# Altium footprint library Terminal Block.PcbLib: 24 footprints (part 1 of 2)
Each footprint in its own frame and in the unit in brackets; x right, y up, seen from the top. Pads: shape width x height; smd on the part's side, far side on the other; paste and mask are expansions set on the pad; w line width, h text height; cw(c..) or ccw(c..) is an arc to the next point about the centre after c.
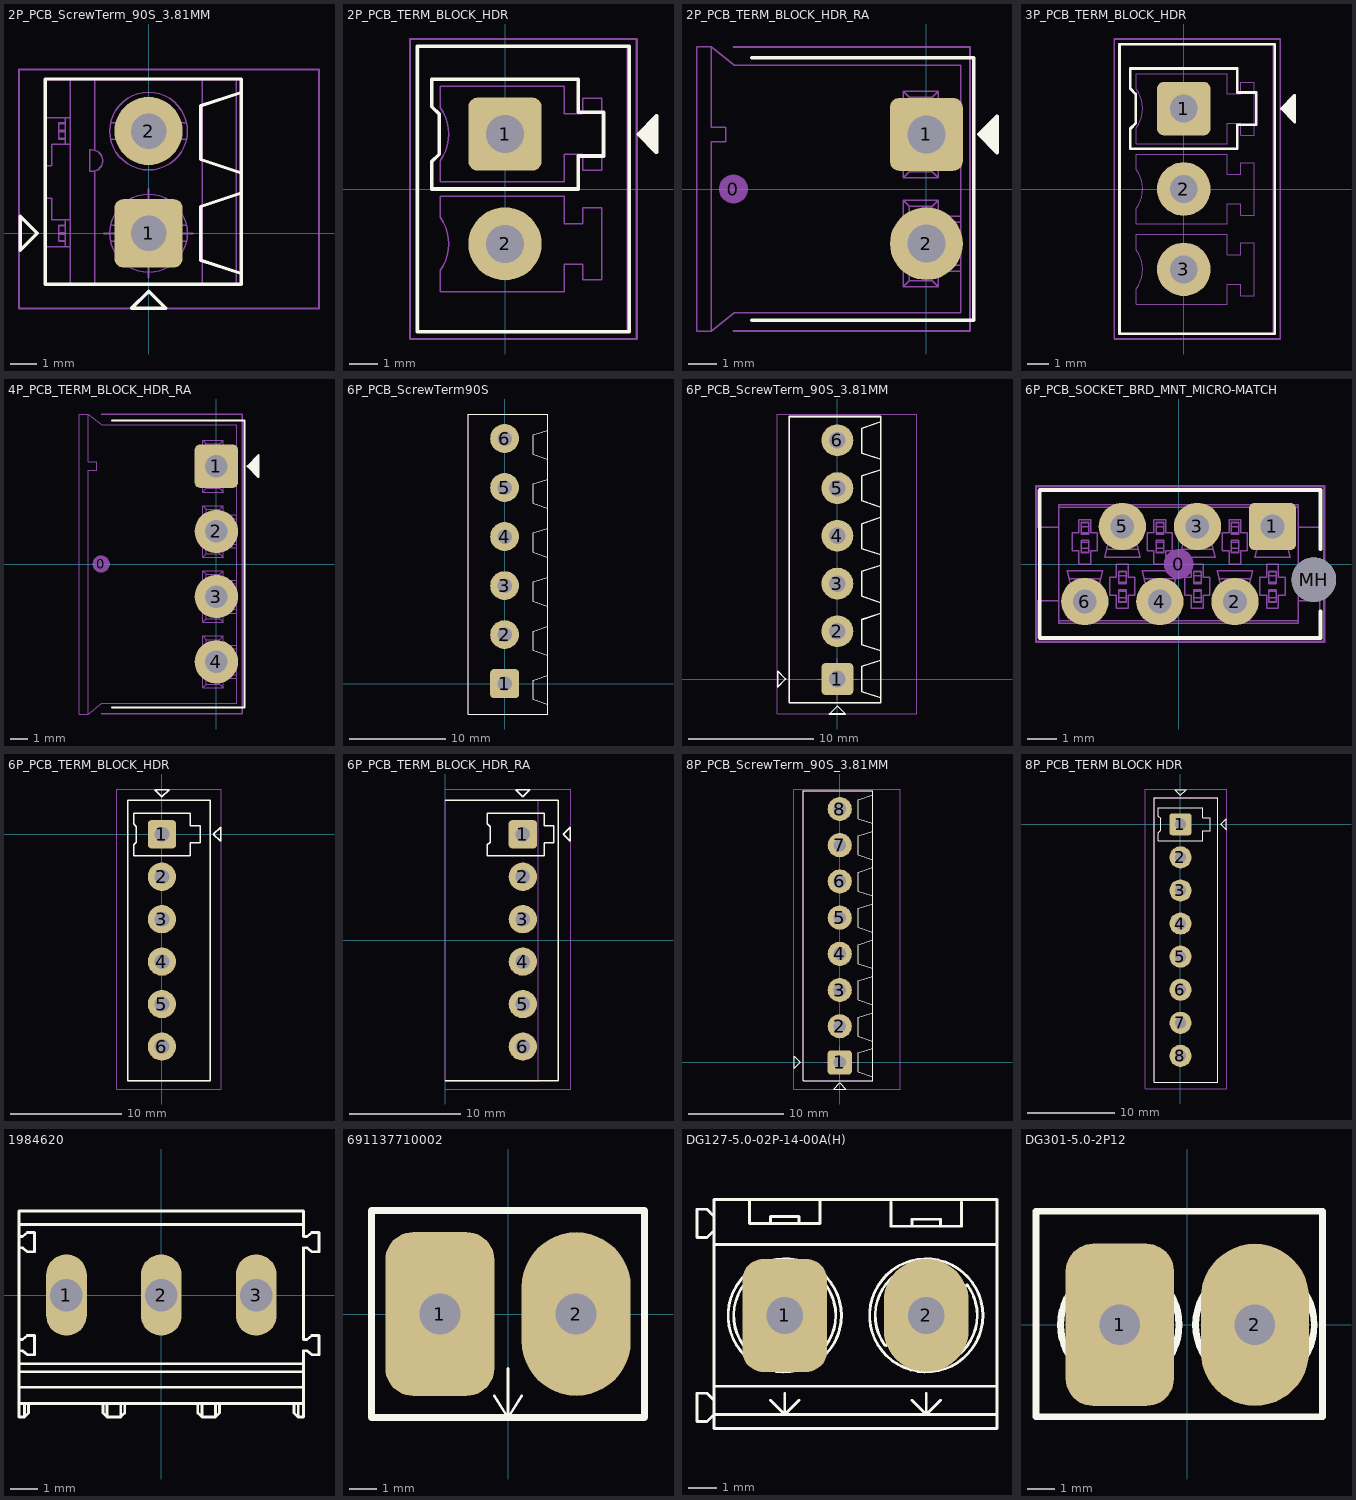
[diagram p0: the footprints below, top view; thin cyan lines are the x and y axes]

## 2P_PCB_ScrewTerm_90S_3.81MM [mil] "TERM BLOCK 2POS SIDE ENT STACKABLE 3.81MM"
height 334.65
pads (2):
  rrect25% 100x100 hole 52: 1(0,0)
  round 100 hole 52: 2(0,150)
Top Overlay:
  lines w5: 135.83,-59.06 76.78,-39.37 76.78,39.37 135.83,59.06 ; 135.83,88.58 76.78,108.27 76.78,187.01 135.83,206.69 ; -188,-25 -163,0 -188,25 -188,-25 ; -151.57,-75 -151.57,226.38 135.83,226.38 135.83,-75 -151.57,-75 ; -25,-110 25,-110 0,-85 -25,-110
Mechanical 13:
  circle w1.97: c0,0 r57.09
  circle w1.97: c0,150 r57.09
  lines w1.97: -151.57,-19.69 -114.76,-19.69 -114.76,19.68 -141.73,19.68 -141.73,51.18 -151.57,51.18 ; -151.57,98.82 -141.73,98.82 -141.73,130.31 -114.76,130.31 -114.76,169.69 -151.57,169.69 ; -131.89,-10.91 -122.05,-10.91 ; -131.89,-1.06 -122.05,-1.06 ; -131.89,1.06 -122.05,1.06 ; -131.89,10.91 -122.05,10.91 ; -131.89,139.09 -122.05,139.09 ; -131.89,148.94 -122.05,148.94 ; -131.89,151.06 -122.05,151.06 ; -131.89,160.91 -122.05,160.91 ; -122.05,-19.69 -122.05,19.68 ; -122.05,-11.81 -131.89,-11.81 -131.89,11.81 -122.05,11.81 ; -122.05,130.31 -122.05,169.69 ; -122.05,138.19 -131.89,138.19 -131.89,161.81 -122.05,161.81 ; -114.56,-75 -114.56,225 ; -78.74,-75 -78.74,91.34 ; -78.74,121.65 -78.74,225 ; -55.85,-11.81 55.85,-11.81 ; -55.85,11.81 55.85,11.81 ; -55.85,138.19 55.85,138.19 ; -55.85,161.81 55.85,161.81 ; 78.74,-75 78.74,225 ; 128.89,-75 128.89,225 ; -151.57,-75 -151.57,225 135.83,225 135.83,-75 -151.57,-75 ; -85.91,90.75 -83.03,90.75 ccw(c-83.03,106.5) -83.03,122.24 -85.91,122.24 -85.91,90.75
Mechanical 15:
  lines w3: -65,0 65,0 ; 0,-65 0,65 ; -190,-110 -190,240 250,240 250,-110 -190,-110
3D body "c-1776113-2-o-3d.stp": height 334.65, standoff -137.8, extent -151.57,-75.19 135.83,224.81

## 2P_PCB_TERM_BLOCK_HDR [mil] "TERM BLOCK HDR 2POS 3.81MM"
height 362.2
pads (2):
  rrect25% 100x100 hole 52: 1(0,75)
  round 100 hole 52: 2(0,-75)
Top Overlay:
  region: 182,75 207,100 207,50
  lines w5: -120,-195.08 -120,195.08 ; -120,-195 170,-195 ; -120,195 170,195 ; 170,-195.08 170,195.08 ; -100,0 100,0 100,45 135,45 135,105 100,105 100,150 -100,150 -100,112.5 -90,102.5 -90,47.5 -100,37.5 -100,0 ; 182,75 207,100 207,50 182,75
Mechanical 13:
  circle w1.97: c0,-75 r43.31
  circle w1.97: c0,75 r43.31
  circle w1.97: c0,75 r35.43
  circle w1.97: c0,-75 r35.43
  lines w1.97: -118.11,-195.08 -118.11,195.08 167.32,195.08 167.32,-195.08 -118.11,-195.08 ; -88.58,-140.16 -88.58,-111.08 ccw(c-137.8,-75) -88.58,-38.92 -88.58,-9.84 80.71,-9.84 80.71,-47.44 106.3,-47.44 106.3,-25.79 131.89,-25.79 131.89,-124.21 106.3,-124.21 106.3,-102.56 80.71,-102.56 80.71,-140.16 -88.58,-140.16 ; -88.58,9.84 -88.58,38.92 ccw(c-137.8,75) -88.58,111.08 -88.58,140.16 80.71,140.16 80.71,102.56 106.3,102.56 106.3,124.21 131.89,124.21 131.89,25.79 106.3,25.79 106.3,47.44 80.71,47.44 80.71,9.84 -88.58,9.84 ; -15.75,-90.75 15.75,-90.75 15.75,-59.25 -15.75,-59.25 -15.75,-90.75 ; -15.75,59.25 15.75,59.25 15.75,90.75 -15.75,90.75 -15.75,59.25
Mechanical 15:
  lines w3: -130,-205 180,-205 180,205 -130,205 -130,-205
3D body "CONN HEADER TE 2P.STEP": height 362.2, standoff -133.86, extent -118.1,-195.07 167.33,195.08

## 2P_PCB_TERM_BLOCK_HDR_RA [mil] "TERM BLOCK HDR 2POS 3.81MM RIGHT-ANGLE"
height 362.2
pads (3):
  round 40 on Mech15: 0(-265,0)
  rrect25% 100x100 hole 52: 1(0,75)
  round 100 hole 52: 2(0,-75)
Top Overlay:
  region: 72,75 97,100 97,50
  lines w5: -240,-180 65,-180 65,180 -240,180 ; 72,75 97,100 97,50 72,75
Mechanical 13:
  lines w1.97: 47.24,-112.8 7.87,-112.8 ; 47.24,-104.53 16.14,-104.53 ; 47.24,-45.47 16.14,-45.47 ; 47.24,-37.2 7.87,-37.2 ; 47.24,37.2 7.87,37.2 ; 47.24,45.47 16.14,45.47 ; 47.24,104.53 16.14,104.53 ; 47.24,112.8 7.87,112.8 ; -295.28,-195.08 -263.78,-169.88 47.24,-169.88 47.24,169.88 -263.78,169.88 -295.28,195.08 ; -295.28,-195.08 -314.96,-195.08 -314.96,195.08 -295.28,195.08 ; -295.28,-195.08 -295.28,65.16 -275.59,65.16 -275.59,84.84 -295.28,84.84 -295.28,195.08 ; -31.89,-134.45 -23.62,-126.18 ; -31.89,-134.45 16.14,-134.45 ; -31.89,-134.45 -31.89,-15.55 ; -31.89,-15.55 -23.62,-23.82 ; -31.89,-15.55 16.14,-15.55 ; -31.89,15.55 -23.62,23.82 ; -31.89,15.55 16.14,15.55 ; -31.89,15.55 -31.89,134.45 ; -31.89,134.45 -23.62,126.18 ; -31.89,134.45 16.14,134.45 ; -23.62,-126.18 7.87,-126.18 ; -23.62,-126.18 -23.62,-23.82 ; -23.62,-23.82 7.87,-23.82 ; -23.62,23.82 7.87,23.82 ; -23.62,23.82 -23.62,126.18 ; -23.62,126.18 7.87,126.18 ; 7.87,-126.18 7.87,-112.8 ; 7.87,-126.18 16.14,-134.45 ; 7.87,-112.8 cw(c16.14,-112.8) 16.14,-104.53 ; 7.87,-37.2 ccw(c16.14,-37.2) 16.14,-45.47 ; 7.87,-37.2 7.87,-23.82 ; 7.87,-23.82 16.14,-15.55 ; 7.87,23.82 7.87,37.2 ; 7.87,23.82 16.14,15.55 ; 7.87,37.2 cw(c16.14,37.2) 16.14,45.47 ; 7.87,112.8 ccw(c16.14,112.8) 16.14,104.53 ; 7.87,112.8 7.87,126.18 ; 7.87,126.18 16.14,134.45 ; 16.14,-134.45 16.14,-104.53 ; 16.14,-45.47 16.14,-15.55 ; 16.14,15.55 16.14,45.47 ; 16.14,104.53 16.14,134.45
Mechanical 15:
  lines w3: -265,-195 60,-195 60,195 -265,195
3D body "CONN RA HEADER TE 2P.STEP": height 291.34, standoff -129.92, extent -314.95,-195.07 47.25,195.08

## 3P_PCB_TERM_BLOCK_HDR [mil] "TERM BLOCK HDR 3POS 3.81MM"
height 362.2
pads (3):
  rrect25% 100x100 hole 52: 1(0,150)
  round 100 hole 52: 2(0,0) 3(0,-150)
Top Overlay:
  region: 182,150 207,175 207,125
  lines w5: -120,-270 170,-270 170,270 -120,270 -120,-270 ; -100,75 100,75 100,120 135,120 135,180 100,180 100,225 -100,225 -100,187.5 -90,177.5 -90,122.5 -100,112.5 -100,75 ; 182,150 207,175 207,125 182,150
Mechanical 13:
  circle w1.97: c0,150 r35.43
  circle w1.97: c0,-150 r35.43
  circle w1.97: c0,0 r35.43
  circle w1.97: c0,150 r43.31
  circle w1.97: c0,0 r43.31
  circle w1.97: c0,-150 r43.31
  lines w1.97: -118.11,-270.08 -118.11,270.08 167.32,270.08 167.32,-270.08 -118.11,-270.08 ; -88.58,-215.16 -88.58,-186.08 ccw(c-137.8,-150) -88.58,-113.92 -88.58,-84.84 80.71,-84.84 80.71,-122.44 106.3,-122.44 106.3,-100.79 131.89,-100.79 131.89,-199.21 106.3,-199.21 106.3,-177.56 80.71,-177.56 80.71,-215.16 -88.58,-215.16 ; -88.58,-65.16 80.71,-65.16 80.71,-27.56 106.3,-27.56 106.3,-49.21 131.89,-49.21 131.89,49.21 106.3,49.21 106.3,27.56 80.71,27.56 80.71,65.16 -88.58,65.16 -88.58,36.08 cw(c-137.8,0) -88.58,-36.08 -88.58,-65.16 ; -88.58,84.84 -88.58,113.92 ccw(c-137.8,150) -88.58,186.08 -88.58,215.16 80.71,215.16 80.71,177.56 106.3,177.56 106.3,199.21 131.89,199.21 131.89,100.79 106.3,100.79 106.3,122.44 80.71,122.44 80.71,84.84 -88.58,84.84 ; -15.75,-165.75 15.75,-165.75 15.75,-134.25 -15.75,-134.25 -15.75,-165.75 ; -15.75,-15.75 15.75,-15.75 15.75,15.75 -15.75,15.75 -15.75,-15.75 ; -15.75,134.25 -15.75,165.75 15.75,165.75 15.75,134.25 -15.75,134.25
Mechanical 15:
  lines w3: -130,-280 180,-280 180,280 -130,280 -130,-280
3D body "CONN HEADER TE 3P.STEP": height 362.2, standoff -133.86, extent -118.1,-270.08 167.33,270.08

## 4P_PCB_TERM_BLOCK_HDR_RA [mil] "TERM BLOCK HDR 4POS 3.81MM RIGHT-ANGLE"
height 362.2
pads (5):
  round 40 on Mech15: 0(-265,0)
  rrect25% 100x100 hole 52: 1(0,225)
  round 100 hole 52: 2(0,75) 3(0,-75) 4(0,-225)
Top Overlay:
  region: 72,225 97,250 97,200
  lines w5: -240,-330 65,-330 65,330 -240,330 ; 72,225 97,250 97,200 72,225
Mechanical 13:
  lines w1.97: 47.24,-262.8 7.87,-262.8 ; 47.24,-254.53 16.14,-254.53 ; 47.24,-195.47 16.14,-195.47 ; 47.24,-187.2 7.87,-187.2 ; 47.24,-112.8 7.87,-112.8 ; 47.24,-104.53 16.14,-104.53 ; 47.24,-45.47 16.14,-45.47 ; 47.24,-37.2 7.87,-37.2 ; 47.24,37.2 7.87,37.2 ; 47.24,45.47 16.14,45.47 ; 47.24,104.53 16.14,104.53 ; 47.24,112.8 7.87,112.8 ; 47.24,187.2 7.87,187.2 ; 47.24,195.47 16.14,195.47 ; 47.24,254.53 16.14,254.53 ; 47.24,262.8 7.87,262.8 ; -295.28,-345.08 -314.96,-345.08 -314.96,345.08 -295.28,345.08 ; -295.28,-345.08 -295.28,215.16 -275.59,215.16 -275.59,234.84 -295.28,234.84 -295.28,345.08 ; -295.28,-345.08 -263.78,-319.88 47.24,-319.88 47.24,319.88 -263.78,319.88 -295.28,345.08 ; -31.89,-284.45 16.14,-284.45 ; -31.89,-284.45 -23.62,-276.18 ; -31.89,-284.45 -31.89,-165.55 ; -31.89,-165.55 16.14,-165.55 ; -31.89,-165.55 -23.62,-173.82 ; -31.89,-134.45 -31.89,-15.55 ; -31.89,-134.45 16.14,-134.45 ; -31.89,-134.45 -23.62,-126.18 ; -31.89,-15.55 16.14,-15.55 ; -31.89,-15.55 -23.62,-23.82 ; -31.89,15.55 -31.89,134.45 ; -31.89,15.55 16.14,15.55 ; -31.89,15.55 -23.62,23.82 ; -31.89,134.45 16.14,134.45 ; -31.89,134.45 -23.62,126.18 ; -31.89,165.55 -31.89,284.45 ; -31.89,165.55 16.14,165.55 ; -31.89,165.55 -23.62,173.82 ; -31.89,284.45 16.14,284.45 ; -31.89,284.45 -23.62,276.18 ; -23.62,-276.18 7.87,-276.18 ; -23.62,-276.18 -23.62,-173.82 ; -23.62,-173.82 7.87,-173.82 ; -23.62,-126.18 -23.62,-23.82 ; -23.62,-126.18 7.87,-126.18 ; -23.62,-23.82 7.87,-23.82 ; -23.62,23.82 7.87,23.82 ; -23.62,23.82 -23.62,126.18 ; -23.62,126.18 7.87,126.18 ; -23.62,173.82 7.87,173.82 ; -23.62,173.82 -23.62,276.18 ; -23.62,276.18 7.87,276.18 ; 7.87,-276.18 16.14,-284.45 ; 7.87,-276.18 7.87,-262.8 ; 7.87,-262.8 cw(c16.14,-262.8) 16.14,-254.53 ; 7.87,-187.2 ccw(c16.14,-187.2) 16.14,-195.47 ; 7.87,-187.2 7.87,-173.82 ; 7.87,-173.82 16.14,-165.55 ; 7.87,-126.18 16.14,-134.45 ; 7.87,-126.18 7.87,-112.8 ; 7.87,-112.8 cw(c16.14,-112.8) 16.14,-104.53 ; 7.87,-37.2 ccw(c16.14,-37.2) 16.14,-45.47 ; 7.87,-37.2 7.87,-23.82 ; 7.87,-23.82 16.14,-15.55 ; 7.87,23.82 16.14,15.55 ; 7.87,23.82 7.87,37.2 ; 7.87,37.2 cw(c16.14,37.2) 16.14,45.47 ; 7.87,112.8 ccw(c16.14,112.8) 16.14,104.53 ; 7.87,112.8 7.87,126.18 ; 7.87,126.18 16.14,134.45 ; 7.87,173.82 16.14,165.55 ; 7.87,173.82 7.87,187.2 ; 7.87,187.2 cw(c16.14,187.2) 16.14,195.47 ; 7.87,262.8 ccw(c16.14,262.8) 16.14,254.53 ; 7.87,262.8 7.87,276.18 ; 7.87,276.18 16.14,284.45 ; 16.14,-284.45 16.14,-254.53 ; 16.14,-195.47 16.14,-165.55 ; 16.14,-134.45 16.14,-104.53 ; 16.14,-45.47 16.14,-15.55 ; 16.14,15.55 16.14,45.47 ; 16.14,104.53 16.14,134.45 ; 16.14,165.55 16.14,195.47 ; 16.14,254.53 16.14,284.45
Mechanical 15:
  lines w3: -265,-345 60,-345 60,345 -265,345
3D body "CONN RA HEADER TE 4P.STEP": height 291.34, standoff -129.92, extent -314.95,-345.07 47.25,345.08

## 6P_PCB_ScrewTerm90S [mm] "TERM BLOCK 6POS SIDE ENT STACKABLE 5.08MM"
height 10
pads (6):
  rrect25% 3x3 hole 1.5: 1(0,0)
  round 3 hole 1.5: 2(0,5.08) 3(0,10.16) 4(0,15.24) 5(0,20.32) 6(0,25.4)
Top Overlay:
  lines w0.127: 4.45,-2.124 2.95,-1.624 2.95,0.376 4.45,0.876 ; 4.45,2.956 2.95,3.456 2.95,5.456 4.45,5.956 ; 4.45,8.036 2.95,8.536 2.95,10.536 4.45,11.036 ; 4.45,13.116 2.95,13.616 2.95,15.616 4.45,16.116 ; 4.45,18.196 2.95,18.696 2.95,20.696 4.45,21.196 ; 4.45,23.276 2.95,23.776 2.95,25.776 4.45,26.276 ; -3.75,-3.14 -3.75,27.94 4.45,27.94 4.45,-3.14 -3.75,-3.14
Mechanical 13:
  lines w0.076: -3.75,-3.14 -3.75,27.94 4.45,27.94 4.45,-3.14 -3.75,-3.14
3D body "c-1776119-6-b-3d.stp": height 10.02, standoff -2.58, extent -3.75,-3.14 4.45,27.94

## 6P_PCB_ScrewTerm_90S_3.81MM [mil] "TERM BLOCK 6POS SIDE ENT STACKABLE 3.81MM"
height 334.65
pads (6):
  rrect25% 100x100 hole 52: 1(0,0)
  round 100 hole 52: 2(0,150) 3(0,300) 4(0,450) 5(0,600) 6(0,750)
Top Overlay:
  lines w5: 135.83,-59.06 76.78,-39.37 76.78,39.37 135.83,59.06 ; 135.83,88.58 76.78,108.27 76.78,187.01 135.83,206.69 ; 135.83,240 76.78,259.69 76.78,338.43 135.83,358.11 ; 135.83,390 76.78,409.69 76.78,488.43 135.83,508.11 ; 135.83,540 76.78,559.68 76.78,638.43 135.83,658.11 ; 135.83,690 76.78,709.68 76.78,788.43 135.83,808.11 ; -188,-25 -163,0 -188,25 -188,-25 ; -151.57,-75 -151.57,825 135.83,825 135.83,-75 -151.57,-75 ; -25,-110 25,-110 0,-85 -25,-110
Mechanical 13:
  lines w3: -151.57,-75 135.83,-75 135.83,825 -151.57,825 -151.57,-75
Mechanical 15:
  lines w3: -65,0 65,0 ; 0,-65 0,65 ; -190,-110 -190,832.88 250,832.88 250,-110 -190,-110
3D body "c-1776113-6-o-3d.stp": height 335.25, standoff -137.2, extent -151.57,-75 135.83,825

## 6P_PCB_SOCKET_BRD_MNT_MICRO-MATCH [mm] "SOCKET MICRO-MATCH BRD MNT 6POS 2.54MM"
height 4.2
pads (8):
  round 1.016 on Mech15: 0(0,0)
  rrect25% 1.6x1.6 hole 0.8: 1(3.175,1.27)
  round 1.6 hole 0.8: 2(1.905,-1.27) 3(0.635,1.27) 4(-0.635,-1.27) 5(-1.905,1.27) 6(-3.175,-1.27)
  round 1.5 hole 1.5 unplated: MH(4.575,-0.53)
Top Overlay:
  lines w0.127: 4.8,-1.6 4.8,-2.5 -4.7,-2.5 -4.7,2.5 4.8,2.5 4.8,0.5
Mechanical 13:
  drawing of 280 lines, arcs and shapes, not listed
Mechanical 15:
  lines w0.076: -4.827,-2.627 -4.827,2.627 4.927,2.627 4.927,-2.627 -4.827,-2.627
3D body "Micro-Match 6-pin header 7-215079-6.STEP": height 4, standoff -3, extent -4.775,-2.5 4.775,2.5

## 6P_PCB_TERM_BLOCK_HDR [mil] "TERM BLOCK HDR 6POS 3.81MM"
height 362.2
pads (6):
  rrect25% 100x100 hole 52: 1(0,0)
  round 100 hole 52: 2(0,-150) 3(0,-300) 4(0,-450) 5(0,-600) 6(0,-750)
Top Overlay:
  lines w5: -120,-870 170,-870 170,120 -120,120 -120,-870 ; -100,-75 100,-75 100,-30 135,-30 135,30 100,30 100,75 -100,75 -100,37.5 -90,27.5 -90,-27.5 -100,-37.5 -100,-75 ; -25,157 0,132 25,157 -25,157 ; 182,0 207,25 207,-25 182,0
Mechanical 13:
  lines w3: -120,-870 -120,120 170,120 170,-870 -120,-870
Mechanical 15:
  lines w3: -160,-900 210,-900 210,160 -160,160 -160,-900
3D body "c-0284517-06-c-3d.stp": height 362.8, standoff -133.26, extent -118.11,-870.07 167.33,120.08
3D body: height 362.2, standoff 0, extent -120,-870 170,120

## 6P_PCB_TERM_BLOCK_HDR_RA [mil] "TERM BLOCK HDR 6POS 3.81MM RIGHT-ANGLE"
height 362.2
pads (6):
  rrect25% 100x100 hole 52: 1(275,375)
  round 100 hole 52: 2(275,225) 3(275,75) 4(275,-75) 5(275,-225) 6(275,-375)
Top Overlay:
  lines w5: 0,-495 400,-495 400,495 0,495 ; 150,300 150,337.5 160,347.5 160,402.5 150,412.5 150,450 350,450 350,405 385,405 385,345 350,345 350,300 150,300 ; 250,532 300,532 275,507 250,532 ; 417,375 442,350 442,400 417,375
Mechanical 13:
  lines w3: 0,-495 330,-495 330,495 0,495 0,-495
Mechanical 15:
  lines w3: 0,-525 445,-525 445,535 0,535
3D body "c-284513-6-c-3d.stp": height 288, standoff -133.26, extent -40,-495.08 322.2,495.08

## 8P_PCB_ScrewTerm_90S_3.81MM [mil] "TERM BLOCK 8POS SIDE ENT STACKABLE 3.81MM"
height 334.65
pads (8):
  rrect25% 100x100 hole 52: 1(0,0)
  round 100 hole 52: 2(0,150) 3(0,300) 4(0,450) 5(0,600) 6(0,750) 7(0,900) 8(0,1050)
Top Overlay:
  lines w5: 135.83,-59.06 76.78,-39.37 76.78,39.37 135.83,59.06 ; 135.83,88.58 76.78,108.27 76.78,187.01 135.83,206.69 ; 135.83,240 76.78,259.69 76.78,338.43 135.83,358.11 ; 135.83,390 76.78,409.69 76.78,488.43 135.83,508.11 ; 135.83,540 76.78,559.68 76.78,638.43 135.83,658.11 ; 135.83,690 76.78,709.68 76.78,788.43 135.83,808.11 ; 135.83,840 76.78,859.68 76.78,938.43 135.83,958.11 ; 135.83,990 76.78,1009.68 76.78,1088.43 135.83,1108.11 ; -188,-25 -163,0 -188,25 -188,-25 ; -151.57,-75 -151.57,1125 135.83,1125 135.83,-75 -151.57,-75 ; -25,-110 25,-110 0,-85 -25,-110
Mechanical 13:
  lines w3: -151.57,-75 135.83,-75 135.83,1125 -151.57,1125 -151.57,-75
Mechanical 15:
  lines w3: -65,0 65,0 ; 0,-65 0,65 ; -190,-110 -190,1132.88 250,1132.88 250,-110 -190,-110
3D body "c-1776113-8-o-3d.stp": height 335.25, standoff -137.2, extent -151.57,-75 135.83,1125

## 8P_PCB_TERM BLOCK HDR [mil] "TERM BLOCK HDR 8POS 3.81MM"
height 362.2
pads (8):
  rrect25% 100x100 hole 52: 1(0,0)
  round 100 hole 52: 2(0,-150) 3(0,-300) 4(0,-450) 5(0,-600) 6(0,-750) 7(0,-900) 8(0,-1050)
Top Overlay:
  lines w5: -120,-1170 -120,120 170,120 170,-1170 -120,-1170 ; -100,-75 -100,-37.5 -90,-27.5 -90,27.5 -100,37.5 -100,75 100,75 100,30 135,30 135,-30 100,-30 100,-75 -100,-75 ; -25,157 25,157 0,132 -25,157 ; 182,0 207,-25 207,25 182,0
Mechanical 13:
  lines w3: -120,-1170 170,-1170 170,120 -120,120 -120,-1170
Mechanical 15:
  lines w3: -160,-1200 -160,160 210,160 210,-1200 -160,-1200
3D body: height 362.2, standoff 0, extent -120,-1170 170,120
3D body "c-0284517-08-c-3d.stp": height 362.8, standoff -133.26, extent -118.11,-1170.07 167.33,120.08

## 1984620 [mm]
pads (3):
  oval 1.5x3 / inner oval 2x3 / far side oval 2.5x3.5 hole 1.2 mask+0: 1(-3.5,0) 2(0,0) 3(3.5,0)
Top Overlay:
  lines w0.1: -4.9,-4 -4.9,-4.35 -5.05,-4.5 ; -2.15,-4 -2.15,-4.35 -2,-4.5 ; -1.35,-4 -1.35,-4.35 -1.5,-4.5 ; 1.35,-4 1.35,-4.35 1.5,-4.5 ; 2.15,-4 2.15,-4.35 2,-4.5 ; 4.9,-4 4.9,-4.35 5.05,-4.5 ; 5.15,-3.4 5.25,-3.4 ; -5.25,-4 -5.25,-4.5 -5.05,-4.5 ; -5.25,-4 -5.25,-3.4 ; -5.25,-4 -5.05,-4 ; -5.25,-3.4 5.25,-3.4 ; -5.25,-3.4 -5.25,-2.827 ; -5.25,-2.827 5.25,-2.827 ; -5.25,-2.827 -5.25,-2.531 ; -5.25,-2.531 5.25,-2.531 ; -5.25,-2.531 -5.25,-2.057 ; -5.25,-2.057 -5.25,-1.643 ; -5.25,-2.057 -5.121,-2.057 -4.943,-2.207 -4.68,-2.207 -4.68,-1.493 -4.943,-1.493 -5.121,-1.643 -5.25,-1.643 ; -5.25,-1.643 -5.25,1.743 ; -5.25,1.743 -5.25,2.157 ; -5.25,1.743 -5.121,1.743 -4.943,1.593 -4.68,1.593 -4.68,2.307 -4.943,2.307 -5.121,2.157 -5.25,2.157 ; -5.25,2.157 -5.25,2.6 ; -5.25,2.6 5.25,2.6 ; -5.25,2.6 -5.25,3.1 5.25,3.1 5.25,2.6 ; -5.05,-4.5 -5.05,-4 ; -5.05,-4.5 -5.05,-4 ; -5.05,-4 -2,-4 ; -2,-4.5 -2,-4 ; -2,-4.5 -1.5,-4.5 ; -2,-4.5 -2,-4 ; -2,-4 -1.5,-4 ; -1.5,-4.5 -1.5,-4 ; -1.5,-4.5 -1.5,-4 ; -1.5,-4 1.5,-4 ; 1.5,-4.5 1.5,-4 ; 1.5,-4.5 2,-4.5 ; 1.5,-4.5 1.5,-4 ; 1.5,-4 2,-4 ; 2,-4.5 2,-4 ; 2,-4.5 2,-4 ; 2,-4 5.05,-4 ; 5.05,-4.5 5.05,-4 ; 5.05,-4.5 5.25,-4.5 5.25,-4 ; 5.05,-4.5 5.05,-4 ; 5.05,-4 5.25,-4 ; 5.25,-4 5.25,-3.4 ; 5.25,-3.4 5.25,-2.827 ; 5.25,-2.827 5.25,-2.531 ; 5.25,-2.531 5.25,-2.057 5.379,-2.057 5.557,-2.207 5.82,-2.207 5.82,-1.493 5.557,-1.493 5.379,-1.643 5.25,-1.643 5.25,1.743 5.379,1.743 5.557,1.593 5.82,1.593 5.82,2.307 5.557,2.307 5.379,2.157 5.25,2.157 5.25,2.6
3D body "1984620.stp": height 9.15, standoff -4.35, extent -5.285,-4.475 5.785,3.125

## 691137710002 [mm] "Terminal Block 2 x 5 mm Pitch"
height 11.6
pads (2):
  rrect50% 4x6 hole 1.5: 1(-2.5,0)
  oval 4x6 hole 1.5: 2(2.5,0)
Top Overlay:
  lines w0.1: -0.5,-3 0,-3.8 ; 0,-2 0,-3.8 ; 0.5,-3 0,-3.8
  lines w0.254: -5,-3.8 -5,3.8 5,3.8 5,-3.8 -5,-3.8

## DG127-5.0-02P-14-00A(H) [mm] "http://files.клеммник.рф/pdf/dg127-5.0.pdf"
height 10.1
pads (2):
  rrect50% 3x4 hole 1.3: 1(-1180,-1142.5)
  oval 3x4 hole 1.3: 2(-1175,-1142.5)
Top Overlay:
  circle w0.1: c-1175,-1142.5 r2
  circle w0.1: c-1180,-1142.5 r2
  lines w0.1: -1182.5,-1145 -1172.5,-1145 ; -1182.5,-1142.5 -1182.5,-1140 -1172.5,-1140 ; -1182.5,-1139.5 -1182.75,-1139.75 -1183.1,-1139.75 -1183.1,-1138.75 -1182.75,-1138.75 -1182.5,-1139 ; -1181.467,-1143.548 cw(c-1180,-1142.5) -1178.918,-1141.058 ; -1181.414,-1143.561 -1178.939,-1141.086 ; -1181.25,-1138.4 -1181.25,-1139.25 -1178.75,-1139.25 -1178.75,-1138.4 ; -1181.082,-1143.942 ccw(c-1180,-1142.5) -1178.558,-1141.418 ; -1181.061,-1143.914 -1178.586,-1141.439 ; -1180.5,-1145.5 -1180,-1146 ; -1180.5,-1139.25 -1180.5,-1139 -1179.5,-1139 -1179.5,-1139.25 ; -1180,-1145.25 -1180,-1146 ; -1179.5,-1145.5 -1180,-1146 ; -1176.467,-1143.548 cw(c-1175,-1142.5) -1173.918,-1141.058 ; -1176.414,-1143.561 -1173.939,-1141.086 ; -1176.25,-1138.5 -1176.25,-1139.35 -1173.75,-1139.35 -1173.75,-1138.5 ; -1176.082,-1143.942 ccw(c-1175,-1142.5) -1173.558,-1141.418 ; -1176.061,-1143.914 -1173.586,-1141.439 ; -1175.5,-1139.35 -1175.5,-1139.1 -1174.5,-1139.1 -1174.5,-1139.35 ; -1175,-1145.25 -1175,-1146 ; -1174.5,-1145.5 -1175,-1146 ; -1172.5,-1146 -1182.5,-1146 ; -1182.75,-1146.25 -1182.5,-1146 ; -1182.75,-1146.25 -1183.1,-1146.25 -1183.1,-1145.25 -1182.75,-1145.25 ; -1182.75,-1146.25 -1182.5,-1146 ; -1182.75,-1145.25 -1182.5,-1145.5 -1182.75,-1145.25 ; -1175.5,-1145.5 -1175.5,-1145.5 ; -1175.5,-1145.5 -1175,-1146 ; -1182.5,-1146.5 -1172.5,-1146.5 -1172.5,-1138.4 -1182.5,-1138.4 -1182.5,-1146.5

## DG301-5.0-2P12 [mm] "Terminal Block 2 x 5 mm Pitch"
height 10
pads (2):
  rrect50% 4x6 hole 1.5: 1(-2.5,0)
  oval 4x6 hole 1.5: 2(2.5,0)
Top Overlay:
  circle w0.254: c2.5,0 r2.193
  circle w0.254: c-2.5,0 r2.193
  lines w0.254: -5.6,-3.4 -5.6,4.2 5,4.2 5,-3.4 -5.6,-3.4 ; -3.5,-0.8 -2,1.2 -1.5,0.7 -3,-1.3 -3.5,-0.8 ; 1.5,-0.8 3,1.2 3.5,0.7 2,-1.3 1.5,-0.8
  text ".Silk" at -2.167,-5.927 h3
3D body "User Library-DG301-5_0-2P12.STEP": height 10, standoff -4.16, extent -5.6,-3.4 5,4.2